# Altium footprint library Powers.PcbLib: 24 footprints (part 1 of 2)
Each footprint in its own frame and in the unit in brackets; x right, y up, seen from the top. Pads: shape width x height; smd on the part's side, far side on the other; paste and mask are expansions set on the pad; w line width, h text height; cw(c..) or ccw(c..) is an arc to the next point about the centre after c.
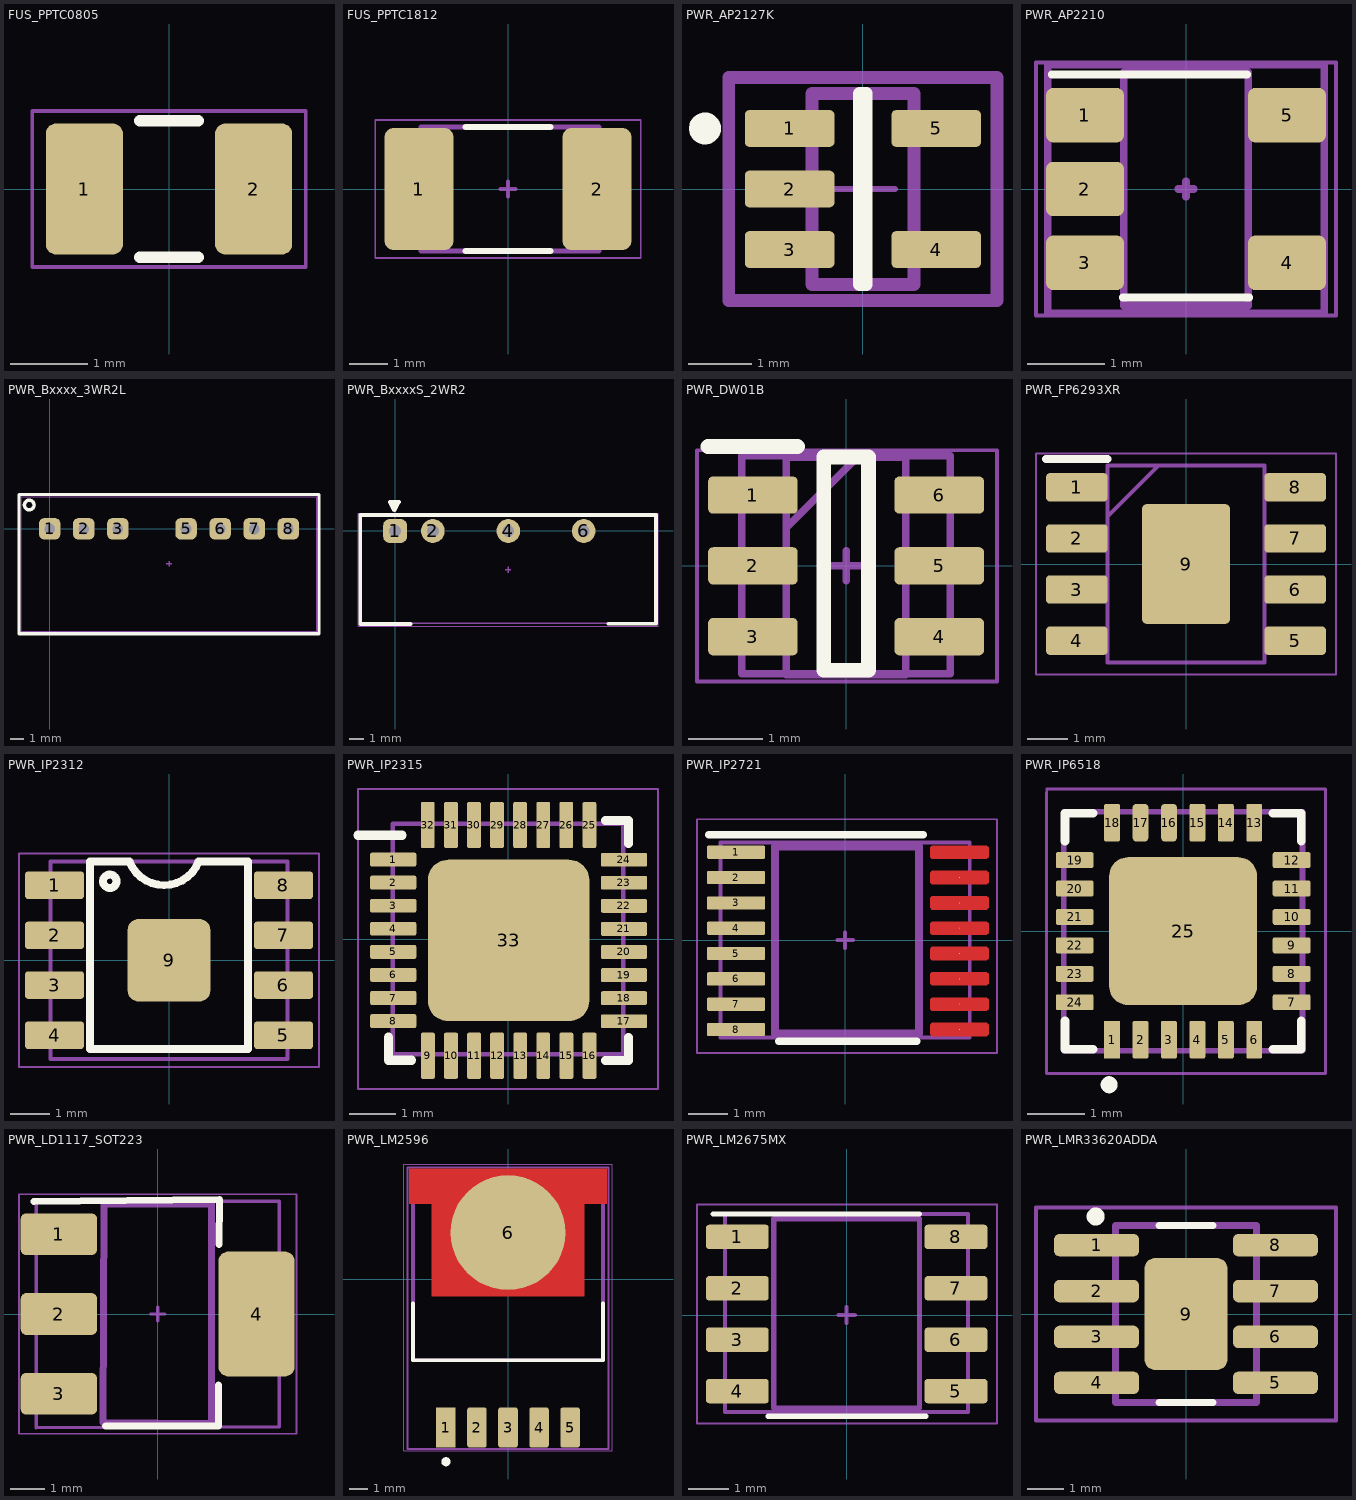
[diagram p0: the footprints below, top view; thin cyan lines are the x and y axes]

## FUS_PPTC0805 [mm]
height 0.6
pads (2):
  rrect25% 1x1.7 smd: 1(-1.1,0) 2(1.1,0)
Top Overlay:
  lines w0.15: -0.381,-0.889 0.381,-0.889 ; -0.381,0.889 0.381,0.889
Top Designator:
  text ".Designator" at -7.618,-0.508 h1.52
Top Courtyard:
  lines w0.05: -1.778,-1.016 -1.778,1.016 1.778,1.016 1.778,-1.016 -1.778,-1.016
3D body "PPTC_0805 v1.step": height 0.56, standoff 0, extent -1.094,-0.8 1.016,0.8

## FUS_PPTC1812 [mm]
pads (2):
  rrect25% 1.78x3.15 smd: 1(-2.3,0) 2(2.3,0)
Top Overlay:
  lines w0.15: -1.1,-1.6 1.1,-1.6 ; -1.1,1.6 1.1,1.6
Top Component Center:
  lines w0.1: -0.2,0 0,0 ; 0,-0.2 0,0 ; 0,0.2 0,0 ; 0.2,0 0,0
Top Designator:
  text ".Designator" at -7.618,-0.508 h1.52
Top 3D Body:
  region: -1.5,-1.6 -2.25,-1.6 -2.25,-0.5 -2.224,-0.499 -2.198,-0.497 -2.172,-0.494 -2.146,-0.489 -2.121,-0.483 -2.095,-0.476 -2.071,-0.467 -2.047,-0.457 -2.023,-0.446 -2,-0.433 -1.978,-0.419 -1.956,-0.405 -1.935,-0.389 -1.915,-0.372 -1.896,-0.354 -1.878,-0.335 -1.861,-0.315 -1.845,-0.294 -1.831,-0.272 -1.817,-0.25 -1.804,-0.227 -1.793,-0.203 -1.783,-0.179 -1.774,-0.155 -1.767,-0.129 -1.761,-0.104 -1.756,-0.078 -1.753,-0.052 -1.751,-0.026 -1.75,0 -1.751,0.026 -1.753,0.052 -1.756,0.078 -1.761,0.104 -1.767,0.129 -1.774,0.155 -1.783,0.179 -1.793,0.203 -1.804,0.227 -1.817,0.25 -1.831,0.272 -1.845,0.294 -1.861,0.315 -1.878,0.335 -1.896,0.354 -1.915,0.372 -1.935,0.389 -1.956,0.405 -1.978,0.419 -2,0.433 -2.023,0.446 -2.047,0.457 -2.071,0.467 -2.095,0.476 -2.121,0.483 -2.146,0.489 -2.172,0.494 -2.198,0.497 -2.224,0.499 -2.25,0.5 -2.25,1.6 -1.5,1.6
  region: 2.35,0.5 2.324,0.499 2.298,0.497 2.272,0.494 2.246,0.489 2.221,0.483 2.195,0.476 2.171,0.467 2.147,0.457 2.123,0.446 2.1,0.433 2.078,0.419 2.056,0.405 2.035,0.389 2.015,0.372 1.996,0.354 1.978,0.335 1.961,0.315 1.945,0.294 1.931,0.272 1.917,0.25 1.904,0.227 1.893,0.203 1.883,0.179 1.874,0.155 1.867,0.129 1.861,0.104 1.856,0.078 1.853,0.052 1.851,0.026 1.85,0 1.851,-0.026 1.853,-0.052 1.856,-0.078 1.861,-0.104 1.867,-0.129 1.874,-0.155 1.883,-0.179 1.893,-0.203 1.904,-0.227 1.917,-0.25 1.931,-0.272 1.945,-0.294 1.961,-0.315 1.978,-0.335 1.996,-0.354 2.015,-0.372 2.035,-0.389 2.056,-0.405 2.078,-0.419 2.1,-0.433 2.123,-0.446 2.147,-0.457 2.171,-0.467 2.195,-0.476 2.221,-0.483 2.246,-0.489 2.272,-0.494 2.298,-0.497 2.324,-0.499 2.35,-0.5 2.35,-1.6 1.5,-1.6 1.5,1.6 2.35,1.6
  lines w0.127: -1.1,-1.6 -2.25,-1.6 -2.25,-0.5 ccw(c-2.25,0) -2.25,0.5 -2.25,1.6 -1.1,1.6 ; 1.1,-1.6 2.35,-1.6 2.35,-0.5 cw(c2.35,0) 2.35,0.5 2.35,1.6 1.1,1.6
Top Courtyard:
  lines w0.05: -3.429,-1.778 -3.429,1.778 3.429,1.778 3.429,-1.778 -3.429,-1.778
3D body "1812_V01.STEP": height 1.42, standoff 0, extent -2.057,-1.571 2.173,1.629

## PWR_AP2127K [mm]
pads (5):
  rrect25% 1.407x0.576 smd paste+0 mask+0: 1(-1.151,0.95) 2(-1.151,0) 3(-1.151,-0.95) 4(1.151,-0.95) 5(1.151,0.95)
Top Overlay:
  circle w0.25: c-2.479,0.95 r0.125
  lines w0.2: -0.053,-1.5 -0.053,1.5 0.053,1.5 0.053,-1.5 -0.053,-1.5
Top Component Center:
  lines w0.1: -0.5,0 0.5,0 ; 0,-0.5 0,0.5
Top Assembly:
  lines w0.2: -2.104,-1.75 2.104,-1.75 2.104,1.75 -2.104,1.75 -2.104,-1.75
Top Designator:
  text ".Designator" at -7.88,-0.508 h1.52
Top 3D Body:
  lines w0.2: -0.8,-1.5 0.8,-1.5 0.8,1.5 -0.8,1.5 -0.8,-1.5
Top Courtyard:
  lines w0.05: -2.104,-1.75 2.104,-1.75 2.104,1.75 -2.104,1.75 -2.104,-1.75
3D body "IC_Diodes_Inc_AP2127K-3_3TRG1_eec.STEP": height 0.25, standoff 0, extent -2.104,-1.75 2.104,1.75

## PWR_AP2210 [mm]
pads (5):
  rrect25% 1x0.7 smd paste+0 mask+0: 1(-1.3,0.95) 2(-1.3,0) 3(-1.3,-0.95) 4(1.3,-0.95) 5(1.3,0.95)
Top Overlay:
  lines w0.1: -1.727,1.473 -0.864,1.473 0.787,1.473 ; -0.813,-1.397 0.813,-1.397
Top Component Center:
  lines w0.1: -0.1,0 0.1,0 ; 0,-0.1 0,0.1
Top Assembly:
  lines w0.1: -1.778,-1.6 -1.778,1.6 1.778,1.6 1.778,-1.6 -1.778,-1.6
Top Designator:
  text ".Designator" at -7.618,-0.508 h1.52
Top 3D Body:
  lines w0.1: -0.8,-1.5 0.8,-1.5 0.8,1.5 -0.8,1.5 -0.8,-1.5
Top Courtyard:
  lines w0.05: -1.93,-1.626 -1.93,1.626 1.93,1.626 1.93,-1.626 -1.93,-1.626
3D body "IC_Diodes_AP2210K-3_3TRG1_eec.STEP": height 1.43, standoff -0.02, extent -1.431,-1.48 1.431,1.48

## PWR_Bxxxx_3WR2L [mm]
pads (7):
  rrect50% 1.6x1.6 hole 0.8: 1(0,0) 2(2.54,0) 3(5.08,0) 5(10.16,0) 6(12.7,0) 7(15.24,0) 8(17.78,0)
Top Overlay:
  circle w0.254: c-1.524,1.778 r0.359
  lines w0.254: -2.286,-7.798 -2.286,-2.286 -2.286,2.565 20.066,2.565 20.066,-7.798 -2.286,-7.798
Top Component Center:
  lines w0.1: 8.7,-2.6 8.9,-2.6 ; 8.9,-2.8 8.9,-2.6 ; 8.9,-2.4 8.9,-2.6 ; 9.1,-2.6 8.9,-2.6
Top Designator:
  text ".Designator" at 1.272,-3.124 h1.52
Top Courtyard:
  lines w0.05: -2.134,-7.645 19.914,-7.645 19.914,-7.366 19.914,-3 19.914,2.4 -2.134,2.4 -2.134,-7.645
3D body "TWRBxxxS-3W v1.step": height 12, standoff -4.3, extent -2.11,-7.62 19.89,2.38

## PWR_BxxxxS_2WR2 [mm]
height 10.16
pads (4):
  rrect50% 1.6x1.6 hole 0.8: 1(0,0)
  round 1.6 hole 0.8: 2(2.54,0) 4(7.62,0) 6(12.7,0)
Top Overlay:
  lines w0.254: -0.051,1.956 -0.051,1.397 ; 1.031,-6.269 -2.347,-6.269 -2.347,1.072 17.566,1.072 17.566,-6.243 14.366,-6.243 ; -0.051,1.397 0.254,1.956 -0.356,1.956 -0.051,1.397
Top Component Center:
  lines w0.1: 7.4,-2.6 7.6,-2.6 ; 7.6,-2.8 7.6,-2.6 ; 7.6,-2.4 7.6,-2.6 ; 7.8,-2.6 7.6,-2.6
Top Assembly:
  lines w0.1: -2.3,-6.2 -2.3,1 17.5,1 17.5,0.3 17.5,-6.2 -2.3,-6.2
Top Designator:
  text ".Designator" at -0.018,-2.679 h1.52
Top Courtyard:
  lines w0.05: -2.5,-6.4 17.7,-6.4 17.7,-2.5 17.7,1.2 -2.5,1.2 -2.5,-6.4
3D body "MORNSUN-BxxxS-2W.STEP": height 10.16, standoff -4.1, extent -2.209,-6.153 17.441,0.947

## PWR_DW01B [mm]
pads (6):
  rrect25% 1.2x0.5 smd: 1(-1.25,0.95) 2(-1.25,0) 3(-1.25,-0.95) 4(1.25,-0.95) 5(1.25,0) 6(1.25,0.95)
Top Overlay:
  lines w0.2: -1.85,1.6 -0.65,1.6 ; -0.3,-1.4 0.3,-1.4 0.3,1.46 -0.3,1.46 -0.3,-1.4
Top Component Center:
  lines w0.1: -0.2,0 0,0 ; 0,-0.2 0,0 ; 0,0.2 0,0 ; 0.2,0 0,0
Top Assembly:
  lines w0.1: -1.4,-1.45 1.4,-1.45 1.4,1.475 -1.4,1.475 -1.4,-1.45
Top Designator:
  text ".Designator" at -7.605,-0.445 h1.52
Top 3D Body:
  lines w0.1: -0.8,0.51 0.15,1.46 ; -0.8,-1.46 0.8,-1.46 0.8,1.46 -0.8,1.46 -0.8,-1.46
Top Courtyard:
  lines w0.05: -2,-1.55 2.025,-1.55 2.025,1.55 -2,1.55 -2,-1.55
3D body "DW01B.stp": height 1.45, standoff 0, extent -1.4,-1.46 1.4,1.46

## PWR_FP6293XR [mm]
pads (9):
  rrect25% 1.526x0.7 smd: 1(-2.712,1.905) 2(-2.712,0.635) 3(-2.712,-0.635) 4(-2.712,-1.905) 5(2.712,-1.905) 6(2.712,-0.635) 7(2.712,0.635) 8(2.712,1.905)
  rrect10% 2.184x2.971 smd: 9(0,0)
Top Overlay:
  lines w0.2: -3.475,2.605 -1.949,2.605
Top Component Center:
  lines w0.1: -0.2,0 0,0 ; 0,-0.2 0,0 ; 0,0.2 0,0 ; 0.2,0 0,0
Top Designator:
  text ".Designator" at -7.618,-0.508 h1.52
Top 3D Body:
  lines w0.1: -1.949,1.174 -0.679,2.444 ; -1.949,-2.444 1.949,-2.444 1.949,2.444 -1.949,2.444 -1.949,-2.444
Top Courtyard:
  lines w0.05: -3.725,-2.739 3.725,-2.739 3.725,2.739 -3.725,2.739 -3.725,-2.739
3D body "FP6293XR-G1.stp": height 1.75, standoff 0, extent -2.997,-2.445 2.997,2.445

## PWR_IP2312 [mm]
pads (9):
  rrect25% 1.5x0.7 smd paste+0 mask+0.051: 1(-2.9,1.9) 2(-2.9,0.63) 3(-2.9,-0.63) 4(-2.9,-1.9) 5(2.9,-1.9) 6(2.9,-0.63) 7(2.9,0.63) 8(2.9,1.9)
  rrect25% 2.09x2.09 smd paste+0 mask+0.051: 9(0,0)
Top Overlay:
  circle w0.2: c-1.5,2 r0.17
  lines w0.2: -2,-2.25 2,-2.25 2,2.5 0.75,2.5 cw(c-0.125,2.838) -1,2.5 -2,2.5 -2,-2.25
Top Component Center:
  lines w0.1: -0.2,0 0,0 ; 0,-0.2 0,0 ; 0,0.2 0,0 ; 0.2,0 0,0
Top Assembly:
  lines w0.1: -3,-2.5 3,-2.5 3,2.5 -3,2.5 -3,-2.5
Top Designator:
  text ".Designator" at -7.618,-0.508 h1.52
Top Courtyard:
  lines w0.05: -3.8,-2.7 3.8,-2.7 3.8,2.7 -3.8,2.7 -3.8,-2.7
3D body "IP2312.stp": height 1.65, standoff 0, extent -3,-2.45 3,2.45

## PWR_IP2315 [mm]
pads (33):
  rrect25% 1x0.3 smd paste-100 mask+0.05: 1(-2.487,1.72) 2(-2.487,1.222) 3(-2.487,0.721) 4(-2.487,0.222) 5(-2.487,-0.279) 6(-2.487,-0.778) 7(-2.487,-1.279) 8(-2.487,-1.778) 17(2.513,-1.781) 18(2.513,-1.281) 19(2.513,-0.781) 20(2.513,-0.281) 21(2.513,0.219) 22(2.513,0.719) 23(2.513,1.219) 24(2.513,1.719)
  rrect25% 0.3x1 smd paste-100 mask+0.05: 9(-1.735,-2.53) 10(-1.235,-2.53) 11(-0.735,-2.53) 12(-0.235,-2.53) 13(0.265,-2.53) 14(0.765,-2.53) 15(1.265,-2.53) 16(1.765,-2.53) 25(1.763,2.47) 26(1.263,2.47) 27(0.763,2.47) 28(0.263,2.47) 29(-0.237,2.47) 30(-0.737,2.47) 31(-1.237,2.47) 32(-1.737,2.47)
  rrect25% 3.5x3.5 smd paste-100 mask+0.05: 33(0.013,-0.03)
Top Overlay:
  lines w0.2: -3.25,2.25 -2.297,2.25 ; -2.589,-2.128 -2.589,-2.628 -2.09,-2.628 ; 2.11,-2.632 2.61,-2.632 2.61,-2.132 ; 2.11,2.569 2.61,2.569 2.61,2.07
Top Paste:
  region: -1.347,-1.39 -1.347,1.33 1.373,1.33 1.373,-1.39
  region: 2.113,-1.921 2.913,-1.921 2.913,-1.641 2.113,-1.641
  region: 2.913,1.859 2.113,1.859 2.113,1.579 2.913,1.579
  region: 2.113,-1.421 2.913,-1.421 2.913,-1.141 2.113,-1.141
  region: 2.113,-0.921 2.913,-0.921 2.913,-0.641 2.113,-0.641
  region: 2.113,-0.421 2.913,-0.421 2.913,-0.141 2.113,-0.141
  region: 2.913,1.359 2.113,1.359 2.113,1.079 2.913,1.079
  region: 2.113,0.079 2.913,0.079 2.913,0.359 2.113,0.359
  region: 2.113,0.579 2.913,0.579 2.913,0.859 2.113,0.859
  region: 1.905,-2.13 1.625,-2.13 1.625,-2.93 1.905,-2.93
  region: 1.623,2.07 1.903,2.07 1.903,2.87 1.623,2.87
  region: 1.405,-2.13 1.125,-2.13 1.125,-2.93 1.405,-2.93
  region: 1.123,2.07 1.403,2.07 1.403,2.87 1.123,2.87
  region: 0.905,-2.13 0.625,-2.13 0.625,-2.93 0.905,-2.93
  region: 0.623,2.07 0.903,2.07 0.903,2.87 0.623,2.87
  region: 0.405,-2.13 0.125,-2.13 0.125,-2.93 0.405,-2.93
  region: 0.123,2.07 0.403,2.07 0.403,2.87 0.123,2.87
  region: -0.095,-2.13 -0.375,-2.13 -0.375,-2.93 -0.095,-2.93
  region: -0.377,2.07 -0.097,2.07 -0.097,2.87 -0.377,2.87
  region: -0.595,-2.13 -0.875,-2.13 -0.875,-2.93 -0.595,-2.93
  region: -0.877,2.07 -0.597,2.07 -0.597,2.87 -0.877,2.87
  region: -1.095,-2.13 -1.375,-2.13 -1.375,-2.93 -1.095,-2.93
  region: -1.377,2.07 -1.097,2.07 -1.097,2.87 -1.377,2.87
  region: -1.595,-2.13 -1.875,-2.13 -1.875,-2.93 -1.595,-2.93
  region: -1.877,2.07 -1.597,2.07 -1.597,2.87 -1.877,2.87
  region: -2.887,1.58 -2.087,1.58 -2.087,1.86 -2.887,1.86
  region: -2.087,-1.638 -2.887,-1.638 -2.887,-1.918 -2.087,-1.918
  region: -2.887,1.082 -2.087,1.082 -2.087,1.362 -2.887,1.362
  region: -2.887,0.581 -2.087,0.581 -2.087,0.861 -2.887,0.861
  region: -2.887,0.082 -2.087,0.082 -2.087,0.362 -2.887,0.362
  region: -2.087,-1.139 -2.887,-1.139 -2.887,-1.419 -2.087,-1.419
  region: -2.887,-0.419 -2.087,-0.419 -2.087,-0.139 -2.887,-0.139
  region: -2.887,-0.918 -2.087,-0.918 -2.087,-0.638 -2.887,-0.638
Top Component Center:
  lines w0.1: -0.2,0 0,0 ; 0,-0.2 0,0 ; 0,0.2 0,0 ; 0.2,0 0,0
Top Assembly:
  lines w0.1: -2.5,-2.5 2.5,-2.5 2.5,2.5 -2.5,2.5 -2.5,-2.5
Top Designator:
  text ".Designator" at -7.655,-0.508 h1.52
Top Courtyard:
  lines w0.05: -3.25,-3.25 3.25,-3.25 3.25,3.25 -3.25,3.25 -3.25,-3.25
3D body "UFQFPN32-5x5-05.step": height 0.55, standoff -0.01, extent -2.519,-2.519 2.519,2.519

## PWR_IP2721 [mm]
pads (16):
  rrect25% 1.5x0.34 smd paste+0 mask+0.051: 1(-2.799,2.253) 2(-2.799,1.603) 3(-2.799,0.953) 4(-2.799,0.303) 5(-2.799,-0.347) 6(-2.799,-0.997) 7(-2.799,-1.647) 8(-2.799,-2.297)
  round 0.025 smd paste+0 mask+0.051: 9(2.933,-2.297) 10(2.933,-1.647) 11(2.933,-0.997) 12(2.933,-0.347) 13(2.933,0.303) 14(2.933,0.953) 15(2.933,1.603) 16(2.933,2.253)
Top Layer:
  region: 2.225,2.423 2.183,2.381 2.183,2.126 2.225,2.083 3.64,2.083 3.683,2.126 3.683,2.381 3.64,2.423
  region: 2.225,1.773 2.183,1.731 2.183,1.476 2.225,1.433 3.64,1.433 3.683,1.476 3.683,1.731 3.64,1.773
  region: 2.225,1.123 2.183,1.081 2.183,0.826 2.225,0.783 3.64,0.783 3.683,0.826 3.683,1.081 3.64,1.123
  region: 2.225,0.473 2.183,0.431 2.183,0.176 2.225,0.133 3.64,0.133 3.683,0.176 3.683,0.431 3.64,0.473
  region: 2.225,-0.177 2.183,-0.219 2.183,-0.474 2.225,-0.517 3.64,-0.517 3.683,-0.474 3.683,-0.219 3.64,-0.177
  region: 2.225,-0.827 2.183,-0.869 2.183,-1.124 2.225,-1.167 3.64,-1.167 3.683,-1.124 3.683,-0.869 3.64,-0.827
  region: 2.225,-1.477 2.183,-1.519 2.183,-1.774 2.225,-1.817 3.64,-1.817 3.683,-1.774 3.683,-1.519 3.64,-1.477
  region: 2.225,-2.127 2.183,-2.169 2.183,-2.424 2.225,-2.467 3.64,-2.467 3.683,-2.424 3.683,-2.169 3.64,-2.127
Top Overlay:
  lines w0.2: -3.5,2.7 2,2.7 ; -1.704,-2.598 1.838,-2.598
Top Component Center:
  lines w0.1: -0.2,0 0,0 ; 0,-0.2 0,0 ; 0,0.2 0,0 ; 0.2,0 0,0
Top Assembly:
  lines w0.1: -3.2,-2.5 -3.2,2.5 3.2,2.5 3.2,-2.5 -3.2,-2.5
Top Designator:
  text ".Designator" at -7.568,-0.408 h1.52
Top 3D Body:
  lines w0.2: -1.8,-2.4 1.9,-2.4 1.9,2.4 -1.8,2.4 -1.8,-2.4
Top Courtyard:
  lines w0.05: -3.8,-2.9 -3.8,3.1 -3.6,3.1 3.9,3.1 3.9,-2.9 -3.8,-2.9
3D body "TSSOP16-4.5-5.0-0.65mm.STEP": height 1.2, standoff 0, extent -3.2,-2.484 3.2,2.484

## PWR_IP6518 [mm]
pads (25):
  rect 0.28x0.665 smd paste-100 mask+0.05: 1(-1.25,-1.907)
  rrect25% 0.28x0.665 smd paste-100 mask+0.05: 2(-0.75,-1.907) 3(-0.25,-1.907) 4(0.25,-1.907) 5(0.75,-1.907) 6(1.25,-1.907) 13(1.25,1.907) 14(0.75,1.907) 15(0.25,1.907) 18(-1.25,1.907)
  rrect25% 0.665x0.28 smd paste-100 mask+0.05: 7(1.907,-1.25) 8(1.907,-0.75) 9(1.907,-0.25) 10(1.907,0.25) 11(1.907,0.75) 12(1.907,1.25) 19(-1.907,1.25) 20(-1.907,0.75) 21(-1.907,0.25) 22(-1.907,-0.25) 23(-1.907,-0.75) 24(-1.907,-1.25)
  rrect50% 0.28x0.665 smd paste-100 mask+0.05: 16(-0.25,1.907) 17(-0.75,1.907)
  rrect25% 2.6x2.6 smd paste-100 mask+0.05: 25(0,0)
Top Overlay:
  circle w0.15: c-1.3,-2.7 r0.075
  lines w0.152: -2.076,-1.58 -2.076,-2.076 -1.58,-2.076 ; -2.076,1.58 -2.076,2.076 -1.58,2.076 ; 1.58,-2.076 2.076,-2.076 2.076,-1.58 ; 1.58,2.076 2.076,2.076 2.076,1.58
Top Component Center:
  lines w0.1: -0.2,0 0,0 ; 0,-0.2 0,0 ; 0,0.2 0,0 ; 0.2,0 0,0
Top Assembly:
  lines w0.1: -2.1,2.102 -2.1,-2.1 2.1,-2.1 2.1,2.1 -2.098,2.102
Top Designator:
  text ".Designator" at -7.568,-0.67 h1.52
Top Courtyard:
  lines w0.05: -2.4,-2.5 -2.4,2.4 -2.4,2.499 2.5,2.5 2.5,-2.5 -2.4,-2.5
3D body "QFN 24.STEP": height 0.9, standoff 0, extent -2.07,-2.07 2.07,2.07

## PWR_LD1117_SOT223 [mm]
pads (4):
  rrect25% 2.2x1.2 smd: 1(-2.85,2.3) 2(-2.85,0) 3(-2.85,-2.3)
  rrect25% 2.2x3.6 smd: 4(2.85,0)
Top Overlay:
  lines w0.2: -3.575,3.25 1.775,3.3 1.769,2.001 ; -1.5,-3.225 1.75,-3.225 1.75,-2.05
Top Component Center:
  lines w0.1: -0.2,0 0,0 ; 0,-0.2 0,0 ; 0,0.2 0,0 ; 0.2,0 0,0
Top Assembly:
  lines w0.1: -3.5,-3.275 3.5,-3.25 3.5,3.25 -3.5,3.25 -3.5,-3.275
Top Designator:
  text ".Designator" at -7.618,-0.508 h1.52
Top 3D Body:
  lines w0.2: -1.575,-3.125 1.55,-3.15 1.55,3.175 -1.55,3.175 -1.575,-3.125
Top Courtyard:
  lines w0.05: -4,-3.45 -4,3.45 4,3.45 4,-3.45 -4,-3.45
3D body "step_temp.STEP": height 1.8, standoff 0, extent -3.499,-3.251 3.499,3.249

## PWR_LM2596 [mm]
pads (6):
  rect 1.07x2.2 smd paste+0 mask+0: 1(-3.4,-8.13)
  rrect25% 1.07x2.2 smd paste+0 mask+0: 2(-1.7,-8.13) 3(0,-8.13) 4(1.7,-8.13) 5(3.4,-8.13)
  round 6.291 smd paste+0 mask+0: 6(0,2.545)
Top Layer:
  region: -5.4,6.04 5.4,6.04 5.4,4.13 4.165,4.13 4.165,-0.95 -4.165,-0.95 -4.165,4.13 -5.4,4.13
Top Overlay:
  circle w0.25: c-3.4,-10 r0.125
  lines w0.2: -5.205,-1.325 -5.205,-4.445 5.205,-4.445 5.205,-1.325
Top Component Center:
  lines w0.1: -0.2,0 0,0 ; -0.005,-0.201 -0.005,-0.001 ; 0,0.2 0,0 ; 0.2,0 0,0
Top Assembly:
  lines w0.1: -5.5,-9.3 5.5,-9.3 5.5,6.1 -5.5,6.1 -5.5,-9.3
Top Designator:
  text ".Designator" at -7.618,-2.47 h1.52
Top 3D Body:
  lines w0.2: -5.205,-4.445 5.205,-4.445 5.205,4.445 -5.205,4.445 -5.205,-4.445
Top Courtyard:
  lines w0.05: -5.7,-9.4 5.7,-9.4 5.7,6.3 -5.7,6.3 -5.7,-9.4
3D body "IC_Texas_Instruments_LM2596SX-12-NOPB_eec.STEP": height 0.25, standoff 0, extent -5.5,-9.31 5.5,6.14

## PWR_LM2675MX [mm]
pads (8):
  rrect25% 1.55x0.6 smd: 1(-2.7,1.931) 2(-2.7,0.661) 3(-2.7,-0.609) 4(-2.7,-1.879) 5(2.7,-1.879) 6(2.7,-0.609) 7(2.7,0.661) 8(2.7,1.931)
Top Overlay:
  lines w0.127: -3.3,2.5 1.8,2.5 ; -1.942,-2.499 1.958,-2.499
Top Component Center:
  lines w0.1: -0.2,0 0,0 ; 0,-0.2 0,0 ; 0,0.2 0,0 ; 0.2,0 0,0
Top Assembly:
  lines w0.1: -3,-2.4 3,-2.4 3,2.5 -3,2.5 -3,-2.4
Top Designator:
  text ".Designator" at -7.61,-0.482 h1.52
Top 3D Body:
  lines w0.127: -1.8,-2.3 -1.8,-1.226 -1.8,1.226 -1.8,2.379 -0.9,2.379 0.9,2.379 1.8,2.379 1.8,-2.3 -1.8,-2.3
Top Courtyard:
  lines w0.05: -3.697,-2.676 3.713,-2.676 3.713,2.729 -3.697,2.729 -3.697,-2.676
3D body "step_temp.STEP": height 1.75, standoff 0, extent -2.989,-2.425 3.005,2.477

## PWR_LMR33620ADDA [mm]
pads (9):
  rrect50% 2.353x0.622 smd paste+0 mask+0: 1(-2.477,1.905) 2(-2.477,0.635) 3(-2.477,-0.635) 4(-2.477,-1.905) 5(2.477,-1.905) 6(2.477,-0.635) 7(2.477,0.635) 8(2.477,1.905)
  rrect25% 2.3x3.1 smd paste-1000 mask+0: 9(0,0)
Top Overlay:
  circle w0.25: c-2.5,2.7 r0.125
  lines w0.2: -0.75,-2.45 0.75,-2.45 ; -0.75,2.45 0.75,2.45
Top Paste:
  rectangle: -0.668,-1.068 0.668,1.068
Top Component Center:
  lines w0.1: -0.2,0 0,0 ; 0,-0.2 0,0 ; 0,0.2 0,0 ; 0.2,0 0,0
Top Assembly:
  lines w0.1: -4.153,-2.95 -4.153,2.95 4.153,2.95 4.153,-2.95 -4.153,-2.95
Top Designator:
  text ".Designator" at -7.618,-0.508 h1.52
Top 3D Body:
  lines w0.2: -1.95,-2.45 -1.95,2.45 1.95,2.45 1.95,-2.45 -1.95,-2.45
Top Courtyard:
  lines w0.05: -4.153,-2.95 -4.153,2.95 4.153,2.95 4.153,-2.95 -4.153,-2.95
3D body "IC_Texas_Instruments_OPA454AIDDAR_eec.STEP": height 0.25, standoff 0, extent -4.153,-2.95 4.153,2.95